# EAGLE library part MICRF220 (library RF_chips)
QwikRadio® RF Receiver ASK, OOK 300MHz ~ 450MHz -112.5dBm 20kbps PCB, Surface Mount 16-QSOP
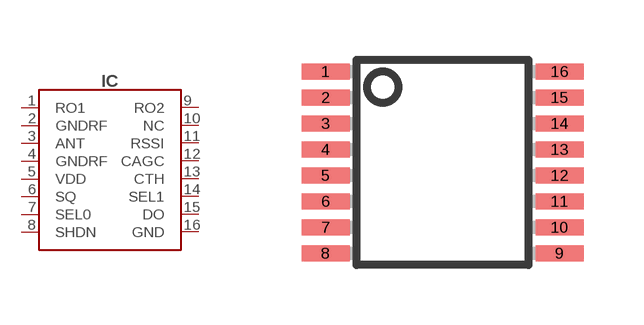
[diagram p0: symbol with the pads of SSOP16; footprint SSOP16]

Designator prefix IC

## MICRF220 (DIGIKEY#: 576-3742-5-ND; MANF: MICRF220AYQS; MANF#: MICRF220AYQS)  [SSOP16]
1  RO1
2  GNDRF
3  ANT
4  GNDRF
5  VDD
6  SQ
7  SEL0
8  SHDN
9  RO2
10  NC
11  RSSI
12  CAGC
13  CTH
14  SEL1
15  DO
16  GND

## Footprint SSOP16 (pad centres in mm)
Small Shrink Outline Package
smd 1.2 x 0.4: 1 -2.925,2.275; 2 -2.925,1.625; 3 -2.925,0.975; 4 -2.925,0.325; 5 -2.925,-0.325; 6 -2.925,-0.975; 7 -2.925,-1.625; 8 -2.925,-2.275; 9 2.925,-2.275; 10 2.925,-1.625; 11 2.925,-0.975; 12 2.925,-0.325; 13 2.925,0.325; 14 2.925,0.975; 15 2.925,1.625; 16 2.925,2.275